# Altium footprint library mbed.PcbLib: 6 footprints
Each footprint in its own frame and in the unit in brackets; x right, y up, seen from the top. Pads: shape width x height; smd on the part's side, far side on the other; paste and mask are expansions set on the pad; w line width, h text height; cw(c..) or ccw(c..) is an arc to the next point about the centre after c.
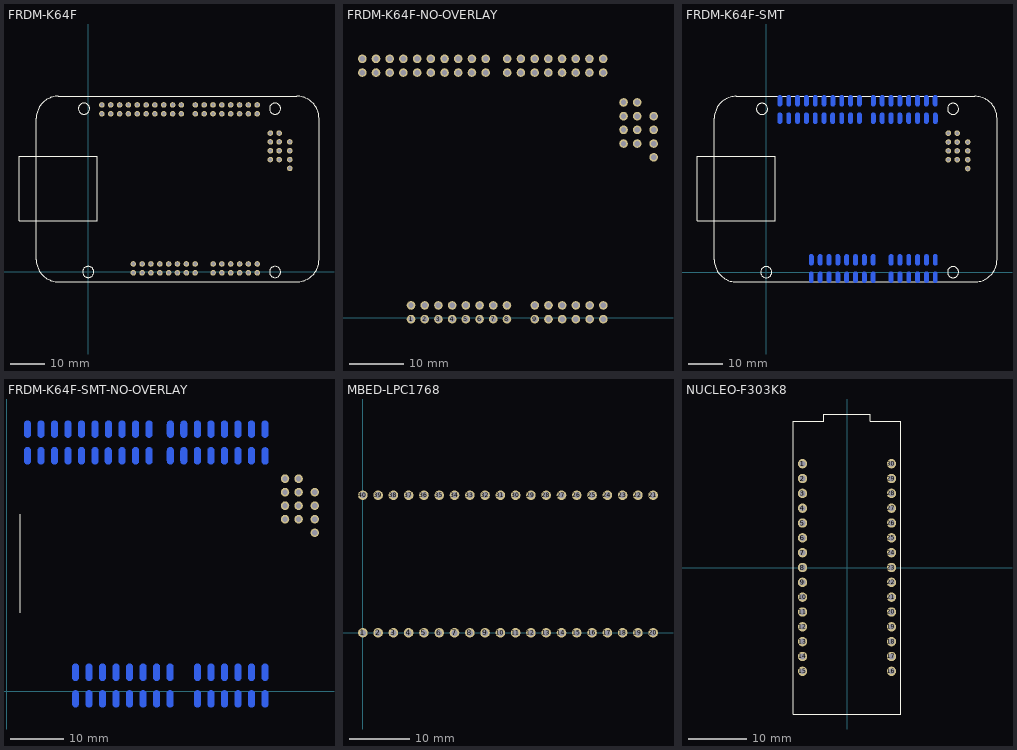
[diagram p0: the footprints below, top view; thin cyan lines are the x and y axes]

## FRDM-K64F [mm]
pads (76):
  round 1.6 hole 1 unplated: 1(12.954,-0.241) 2(15.494,-0.241) 3(18.034,-0.241) 4(20.574,-0.241) 5(23.114,-0.241) 6(25.654,-0.241) 7(28.194,-0.241) 8(30.734,-0.241) 9(35.89,-0.241) 10(38.43,-0.241) 11(40.97,-0.241) 12(43.51,-0.241) 13(46.05,-0.241) 14(48.59,-0.241) 15(12.954,2.299) 16(15.494,2.299) 17(18.034,2.299) 18(20.574,2.299) 19(23.114,2.299) 20(25.654,2.299) 21(28.194,2.299) 22(30.734,2.299) 23(35.89,2.299) 24(38.43,2.299) 25(40.97,2.299) 26(43.51,2.299) 27(46.05,2.299) 28(48.59,2.299) 29(52.344,39.926) 30(52.344,37.386) 31(52.344,34.846) 32(52.344,32.306) 33(54.884,32.306) 34(54.884,34.846) 35(54.884,37.386) 36(54.884,39.926) 37(57.932,37.386) 38(57.932,34.846) 39(57.932,32.306) 40(57.932,29.766) 41(48.565,45.466) 42(46.025,45.466) 43(43.485,45.466) 44(40.945,45.466) 45(38.405,45.466) 46(35.865,45.466) 47(33.325,45.466) 48(30.785,45.466) 49(26.784,45.466) 50(24.244,45.466) 51(21.704,45.466) 52(19.164,45.466) 53(16.624,45.466) 54(14.084,45.466) 55(11.544,45.466) 56(9.004,45.466) 57(6.464,45.466) 58(3.924,45.466) 59(48.565,48.006) 60(46.025,48.006) 61(43.485,48.006) 62(40.945,48.006) 63(38.405,48.006) 64(35.865,48.006) 65(33.325,48.006) 66(30.785,48.006) 67(26.784,48.006) 68(24.244,48.006) 69(21.704,48.006) 70(19.164,48.006) 71(16.624,48.006) 72(14.084,48.006) 73(11.544,48.006) 74(9.004,48.006) 75(6.464,48.006) 76(3.924,48.006)
Top Overlay:
  circle w0.3: c0,0 r1.6
  circle w0.3: c-1.219,46.939 r1.6
  circle w0.3: c53.708,46.939 r1.6
  circle w0.3: c53.708,0 r1.6
  lines w0.2: -19.9,14.74 2.54,14.74 2.54,33.23 -19.9,33.23 -19.9,14.74 ; -14.948,3.531 ccw(c-8.598,3.531) -8.598,-2.819 59.982,-2.819 ccw(c59.982,3.531) 66.332,3.531 66.332,44.171 ccw(c59.982,44.171) 59.982,50.521 -8.598,50.521 ccw(c-8.598,44.171) -14.948,44.171 -14.948,3.531

## FRDM-K64F-NO-OVERLAY [mm]
pads (76):
  round 1.6 hole 1 unplated: 1(12.954,-0.241) 2(15.494,-0.241) 3(18.034,-0.241) 4(20.574,-0.241) 5(23.114,-0.241) 6(25.654,-0.241) 7(28.194,-0.241) 8(30.734,-0.241) 9(35.89,-0.241) 10(38.43,-0.241) 11(40.97,-0.241) 12(43.51,-0.241) 13(46.05,-0.241) 14(48.59,-0.241) 15(12.954,2.299) 16(15.494,2.299) 17(18.034,2.299) 18(20.574,2.299) 19(23.114,2.299) 20(25.654,2.299) 21(28.194,2.299) 22(30.734,2.299) 23(35.89,2.299) 24(38.43,2.299) 25(40.97,2.299) 26(43.51,2.299) 27(46.05,2.299) 28(48.59,2.299) 29(52.344,39.926) 30(52.344,37.386) 31(52.344,34.846) 32(52.344,32.306) 33(54.884,32.306) 34(54.884,34.846) 35(54.884,37.386) 36(54.884,39.926) 37(57.932,37.386) 38(57.932,34.846) 39(57.932,32.306) 40(57.932,29.766) 41(48.565,45.466) 42(46.025,45.466) 43(43.485,45.466) 44(40.945,45.466) 45(38.405,45.466) 46(35.865,45.466) 47(33.325,45.466) 48(30.785,45.466) 49(26.784,45.466) 50(24.244,45.466) 51(21.704,45.466) 52(19.164,45.466) 53(16.624,45.466) 54(14.084,45.466) 55(11.544,45.466) 56(9.004,45.466) 57(6.464,45.466) 58(3.924,45.466) 59(48.565,48.006) 60(46.025,48.006) 61(43.485,48.006) 62(40.945,48.006) 63(38.405,48.006) 64(35.865,48.006) 65(33.325,48.006) 66(30.785,48.006) 67(26.784,48.006) 68(24.244,48.006) 69(21.704,48.006) 70(19.164,48.006) 71(16.624,48.006) 72(14.084,48.006) 73(11.544,48.006) 74(9.004,48.006) 75(6.464,48.006) 76(3.924,48.006)

## FRDM-K64F-SMT [mm]
pads (76):
  oval 1.2x3.2 smd far side: 1(12.954,-1.471)
  oval 1.27x3.2 smd far side: 2(15.494,-1.471) 3(18.034,-1.471) 4(20.574,-1.471) 5(23.114,-1.471) 6(25.654,-1.471) 7(28.194,-1.471) 8(30.734,-1.471) 9(35.89,-1.471) 10(38.43,-1.471) 11(40.97,-1.471) 12(43.51,-1.471) 13(46.05,-1.471) 14(48.59,-1.471) 15(12.954,3.529) 16(15.494,3.529) 17(18.034,3.529) 18(20.574,3.529) 19(23.114,3.529) 20(25.654,3.529) 21(28.194,3.529) 22(30.734,3.529) 23(35.89,3.529) 24(38.43,3.529) 25(40.97,3.529) 26(43.51,3.529) 27(46.05,3.529) 28(48.59,3.529) 41(48.6,44.2) 42(46.025,44.236) 43(43.485,44.236) 44(40.945,44.236) 45(38.405,44.236) 46(35.865,44.236) 47(33.325,44.236) 48(30.785,44.236) 49(26.784,44.236) 50(24.244,44.236) 51(21.704,44.236) 52(19.1,44.2) 53(16.624,44.236) 54(14.084,44.236) 55(11.544,44.236) 56(9.004,44.236) 57(6.464,44.236) 58(3.924,44.236) 59(48.565,49.236) 60(46.025,49.236) 61(43.485,49.236) 62(40.945,49.236) 63(38.405,49.236) 64(35.865,49.236) 65(33.325,49.236) 66(30.785,49.236) 67(26.784,49.236) 68(24.244,49.236) 69(21.704,49.236) 70(19.164,49.236) 71(16.624,49.236) 72(14.084,49.236) 73(11.544,49.236) 74(9.004,49.236) 75(6.464,49.236) 76(3.924,49.236)
  round 1.6 hole 1 unplated: 29(52.344,39.926) 30(52.344,37.386) 31(52.344,34.846) 32(52.344,32.306) 33(54.884,32.306) 34(54.884,34.846) 35(54.884,37.386) 36(54.884,39.926) 37(57.932,37.386) 38(57.932,34.846) 39(57.932,32.306) 40(57.932,29.766)
Top Overlay:
  circle w0.3: c53.708,0 r1.6
  circle w0.3: c53.708,46.939 r1.6
  circle w0.3: c-1.219,46.939 r1.6
  circle w0.3: c0,0 r1.6
  lines w0.2: -19.9,14.74 -19.9,33.23 2.54,33.23 2.54,14.74 -19.9,14.74 ; -14.948,3.531 ccw(c-8.598,3.531) -8.598,-2.819 59.982,-2.819 ccw(c59.982,3.531) 66.332,3.531 66.332,44.171 ccw(c59.982,44.171) 59.982,50.521 -8.598,50.521 ccw(c-8.598,44.171) -14.948,44.171 -14.948,3.531

## FRDM-K64F-SMT-NO-OVERLAY [mm]
pads (76):
  oval 1.2x3.2 smd far side: 1(12.954,-1.471)
  oval 1.27x3.2 smd far side: 2(15.494,-1.471) 3(18.034,-1.471) 4(20.574,-1.471) 5(23.114,-1.471) 6(25.654,-1.471) 7(28.194,-1.471) 8(30.734,-1.471) 9(35.89,-1.471) 10(38.43,-1.471) 11(40.97,-1.471) 12(43.51,-1.471) 13(46.05,-1.471) 14(48.59,-1.471) 15(12.954,3.529) 16(15.494,3.529) 17(18.034,3.529) 18(20.574,3.529) 19(23.114,3.529) 20(25.654,3.529) 21(28.194,3.529) 22(30.734,3.529) 23(35.89,3.529) 24(38.43,3.529) 25(40.97,3.529) 26(43.51,3.529) 27(46.05,3.529) 28(48.59,3.529) 41(48.6,44.2) 42(46.025,44.236) 43(43.485,44.236) 44(40.945,44.236) 45(38.405,44.236) 46(35.865,44.236) 47(33.325,44.236) 48(30.785,44.236) 49(26.784,44.236) 50(24.244,44.236) 51(21.704,44.236) 52(19.1,44.2) 53(16.624,44.236) 54(14.084,44.236) 55(11.544,44.236) 56(9.004,44.236) 57(6.464,44.236) 58(3.924,44.236) 59(48.565,49.236) 60(46.025,49.236) 61(43.485,49.236) 62(40.945,49.236) 63(38.405,49.236) 64(35.865,49.236) 65(33.325,49.236) 66(30.785,49.236) 67(26.784,49.236) 68(24.244,49.236) 69(21.704,49.236) 70(19.164,49.236) 71(16.624,49.236) 72(14.084,49.236) 73(11.544,49.236) 74(9.004,49.236) 75(6.464,49.236) 76(3.924,49.236)
  round 1.6 hole 1 unplated: 29(52.344,39.926) 30(52.344,37.386) 31(52.344,34.846) 32(52.344,32.306) 33(54.884,32.306) 34(54.884,34.846) 35(54.884,37.386) 36(54.884,39.926) 37(57.932,37.386) 38(57.932,34.846) 39(57.932,32.306) 40(57.932,29.766)
Top Overlay:
  lines w0.2: 2.54,14.74 2.54,33.23

## MBED-LPC1768 [mm]
pads (40):
  round 1.6 hole 1 unplated: 1(0,0) 2(2.54,0) 3(5.08,0) 4(7.62,0) 5(10.16,0) 6(12.7,0) 7(15.24,0) 8(17.78,0) 9(20.32,0) 10(22.86,0) 11(25.4,0) 12(27.94,0) 13(30.48,0) 14(33.02,0) 15(35.56,0) 16(38.1,0) 17(40.64,0) 18(43.18,0) 19(45.72,0) 20(48.26,0) 21(48.26,22.86) 22(45.72,22.86) 23(43.18,22.86) 24(40.64,22.86) 25(38.1,22.86) 26(35.56,22.86) 27(33.02,22.86) 28(30.48,22.86) 29(27.94,22.86) 30(25.4,22.86) 31(22.86,22.86) 32(20.32,22.86) 33(17.78,22.86) 34(15.24,22.86) 35(12.7,22.86) 36(10.16,22.86) 37(7.62,22.86) 38(5.08,22.86) 39(2.54,22.86) 40(0,22.86)

## NUCLEO-F303K8 [mm]
pads (30):
  round 1.6 hole 1: 1(-7.62,17.78) 2(-7.62,15.24) 3(-7.62,12.7) 4(-7.62,10.16) 5(-7.62,7.62) 6(-7.62,5.08) 7(-7.62,2.54) 8(-7.62,0) 9(-7.62,-2.54) 10(-7.62,-5.08) 11(-7.62,-7.62) 12(-7.62,-10.16) 13(-7.62,-12.7) 14(-7.62,-15.24) 15(-7.62,-17.78) 16(7.62,-17.78) 17(7.62,-15.24) 18(7.62,-12.7) 19(7.62,-10.16) 20(7.62,-7.62) 21(7.62,-5.08) 22(7.62,-2.54) 23(7.62,0) 24(7.62,2.54) 25(7.62,5.08) 26(7.62,7.62) 27(7.62,10.16) 28(7.62,12.7) 29(7.62,15.24) 30(7.62,17.78)
Top Overlay:
  lines w0.2: -9.2,-25.1 9.2,-25.1 9.2,25.1 4,25.1 4,26.3 -4,26.3 -4,25.1 -9.2,25.1 -9.2,-25.1